# Altium schematic symbol library Schlib_Pulsar.SchLib: 15 symbols
Pins are listed as number, name and electrical type; pins without a type are passive.

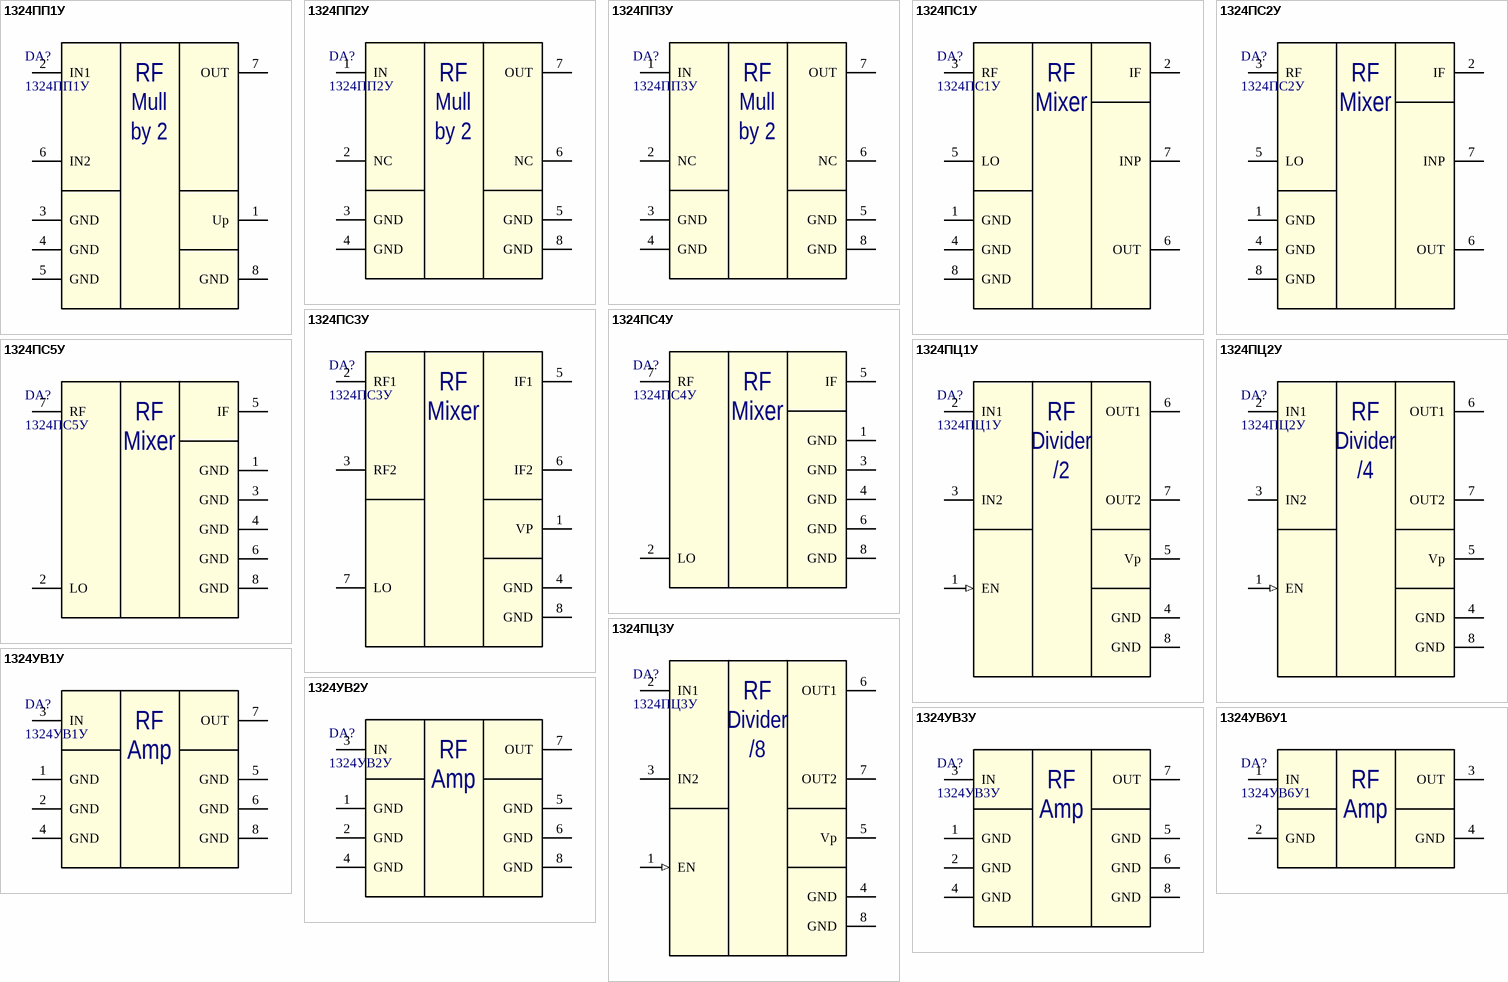
[diagram p0: symbols 1324ПП1У to 1324УВ6У1]

## 1324ПП1У
designator DA?
RF Multiplier; ТУ: АЕЯР.431000.760–03 ТУ; Part Number: 1324ПП1У; Package: 5140.8-АНЗ
footprint 5140.8-АНЗ (5mm x 5mm)
pins: 1 Up (power), 2 IN1, 3 GND (power), 4 GND (power), 5 GND (power), 6 IN2, 7 OUT, 8 GND (power)
text: RF; Mull; by 2

## 1324ПП2У
designator DA?
RF Multiplier; ТУ: АЕЯР.431000.760–03 ТУ; Part Number: 1324ПП2У; Package: 5140.8-АНЗ
footprint 5140.8-АНЗ (5mm x 5mm)
pins: 1 IN, 2 NC (hiz), 3 GND (power), 4 GND (power), 5 GND (power), 6 NC (hiz), 7 OUT, 8 GND (power)
text: RF; Mull; by 2

## 1324ПП3У
designator DA?
RF Multiplier; ТУ: АЕЯР.431000.760–03 ТУ; Part Number: 1324ПП3У; Package: 5140.8-АНЗ
footprint 5140.8-АНЗ (5mm x 5mm)
pins: 1 IN, 2 NC (hiz), 3 GND (power), 4 GND (power), 5 GND (power), 6 NC (hiz), 7 OUT, 8 GND (power)
text: RF; Mull; by 2

## 1324ПС1У
designator DA?
RF Mixer; ТУ: АЕЯР.431000.760–01 ТУ; Part Number: 1324ПС1У; Package: 5140.8-АНЗ
footprint 5140.8-АНЗ (5mm x 5mm)
pins: 1 GND (power), 2 IF, 3 RF, 4 GND (power), 5 LO, 6 OUT, 7 INP, 8 GND (power)
text: Mixer

## 1324ПС2У
designator DA?
RF Mixer; ТУ: АЕЯР.431000.760–01 ТУ; Part Number: 1324ПС2У; Package: 5140.8-АНЗ
footprint 5140.8-АНЗ (5mm x 5mm)
pins: 1 GND (power), 2 IF, 3 RF, 4 GND (power), 5 LO, 6 OUT, 7 INP, 8 GND (power)
text: Mixer

## 1324ПС3У
designator DA?
RF Mixer; ТУ: АЕЯР.431000.760–01 ТУ; Part Number: 1324ПС3У; Package: 5140.8-АНЗ
footprint 5140.8-АНЗ (5mm x 5mm)
pins: 1 VP (power), 2 RF1, 3 RF2, 4 GND (power), 5 IF1, 6 IF2, 7 LO, 8 GND (power)
text: RF; Mixer

## 1324ПС4У
designator DA?
RF Mixer; ТУ: АЕЯР.431000.760–01 ТУ; Part Number: 1324ПС4У; Package: 5140.8-АНЗ
footprint 5140.8-АНЗ (5mm x 5mm)
pins: 1 GND (power), 2 LO, 3 GND (power), 4 GND (power), 5 IF, 6 GND (power), 7 RF, 8 GND (power)
text: Mixer

## 1324ПС5У
designator DA?
RF Mixer; ТУ: АЕЯР.431000.760–01 ТУ; Part Number: 1324ПС5У; Package: 5140.8-АНЗ
footprint 5140.8-АНЗ (5mm x 5mm)
pins: 1 GND (power), 2 LO, 3 GND (power), 4 GND (power), 5 IF, 6 GND (power), 7 RF, 8 GND (power)
text: Mixer

## 1324ПЦ1У
designator DA?
RF Divider; ТУ: АЕЯР.431000.760–03 ТУ; Part Number: 1324ПЦ1У; Package: 5140.8-АНЗ
footprint 5140.8-АНЗ (5mm x 5mm)
pins: 1 EN (in), 2 IN1, 3 IN2, 4 GND (power), 5 Vp (power), 6 OUT1, 7 OUT2, 8 GND (power)
text: RF; Divider; /2

## 1324ПЦ2У
designator DA?
RF Divider; ТУ: АЕЯР.431000.760–03 ТУ; Part Number: 1324ПЦ2У; Package: 5140.8-АНЗ
footprint 5140.8-АНЗ (5mm x 5mm)
pins: 1 EN (in), 2 IN1, 3 IN2, 4 GND (power), 5 Vp (power), 6 OUT1, 7 OUT2, 8 GND (power)
text: RF; Divider; /4

## 1324ПЦ3У
designator DA?
RF Divider; ТУ: АЕЯР.431000.760–03 ТУ; Part Number: 1324ПЦ3У; Package: 5140.8-АНЗ
footprint 5140.8-АНЗ (5mm x 5mm)
pins: 1 EN (in), 2 IN1, 3 IN2, 4 GND (power), 5 Vp (power), 6 OUT1, 7 OUT2, 8 GND (power)
text: RF; Divider; /8

## 1324УВ1У
designator DA?
RF Amplifer; ТУ: АЕЯР.431000.760–02 ТУ; Part Number: 1324УВ1У; Package: 5140.8-АНЗ
footprint 5140.8-АНЗ (5mm x 5mm)
pins: 1 GND (power), 2 GND (power), 3 IN, 4 GND (power), 5 GND (power), 6 GND (power), 7 OUT, 8 GND (power)
text: RF; Amp

## 1324УВ2У
designator DA?
RF Amplifer; ТУ: АЕЯР.431000.760–02 ТУ; Part Number: 1324УВ2У; Package: 5140.8-АНЗ
footprint 5140.8-АНЗ (5mm x 5mm)
pins: 1 GND (power), 2 GND (power), 3 IN, 4 GND (power), 5 GND (power), 6 GND (power), 7 OUT, 8 GND (power)
text: RF; Amp

## 1324УВ3У
designator DA?
RF Amplifer; ТУ: АЕЯР.431000.760–02 ТУ; Part Number: 1324УВ3У; Package: 5140.8-АНЗ
footprint 5140.8-АНЗ (5mm x 5mm)
pins: 1 GND (power), 2 GND (power), 3 IN, 4 GND (power), 5 GND (power), 6 GND (power), 7 OUT, 8 GND (power)
text: RF; Amp

## 1324УВ6У1
designator DA?
RF Amplifer; ТУ: АЕЯР.431000.760–06 ТУ; Part Number: 1324УВ6У1; Package: КТ-47 (SOT89)
footprint SOT89-3 (SOT89, 3-Leads, Body 4.50x2.45mm, Pitch 1.50mm, Lead Span 4.1mm, IPC Medium Density)
pins: 1 IN, 2 GND (power), 3 OUT, 4 GND (power)
text: RF; Amp